# Altium integrated library Analog Devices Temperature Sensors.IntLib: 271 symbols (part 9 of 14)
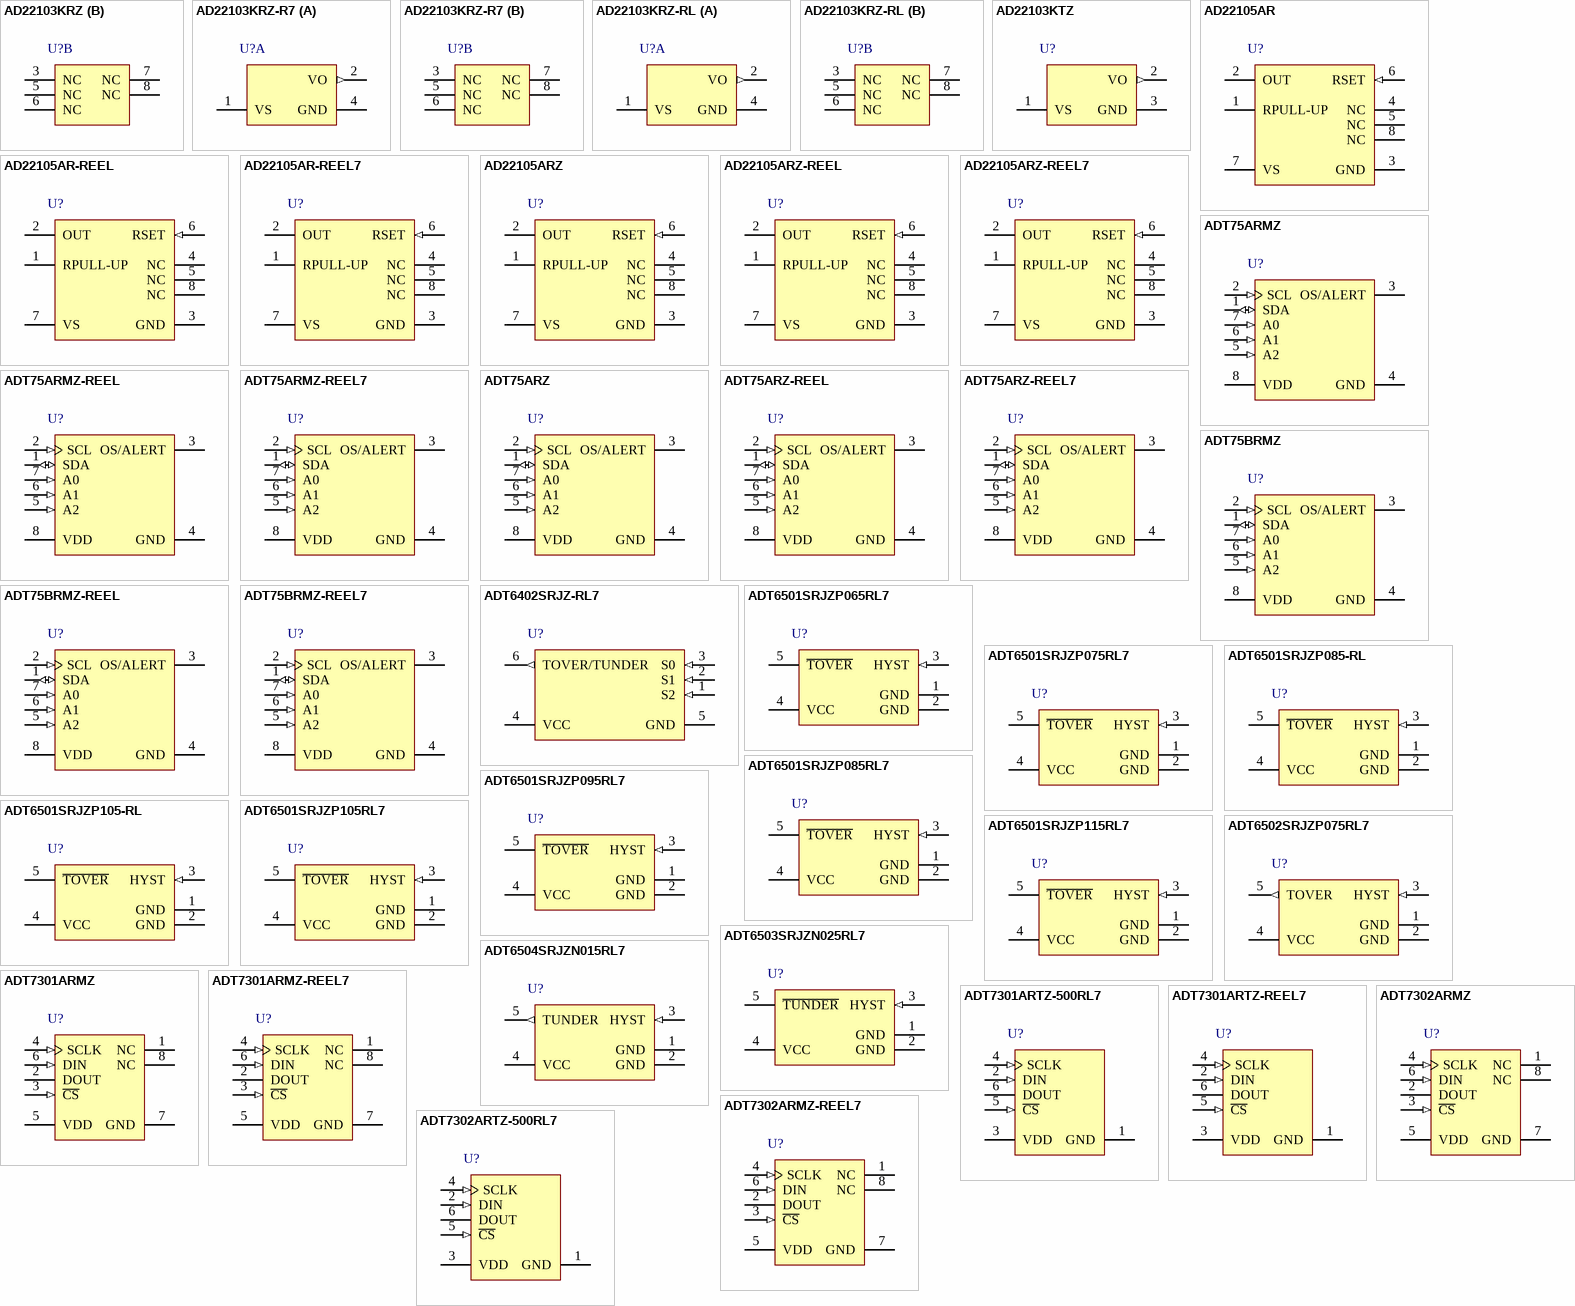
[diagram p15: symbols AD22103KRZ to ADT7302ARTZ-500RL7]

## ADT75ARMZ-REEL7
designator U?
+/-1 degrees C Accurate, 12-Bit Digital Temperature Sensor, 2.7 to 5.5 V Supply, Industrial, 8-pin SOP (RM-8), Reel; Manufacturer: Analog Devices; PartNumber: ADT75ARMZ-REEL7; DatasheetVersion: Rev. B; PackageVersion: 08/2005; PackageReference: RM-8; PackageDescription: 8-Pin Mini Small Outline Package, Body 3 x 3 mm, Pitch 0.65 mm; Supplier 1: Digi-Key; Supplier Part Number 1: ADT75ARMZ-REEL7TR-ND; Supplier 2: Digi-Key; Supplier Part Number 2: ADT75ARMZ-REEL7CT-ND; Supplier 3: Digi-Key; Supplier Part Number 3: ADT75ARMZ-REEL7DKR-ND; Supplier 4: Newark; Supplier Part Number 4: 30M9932; Supplier 5: Mouser; Supplier Part Number 5: 584-ADT75ARMZ-R7; Packing: Reel; Supply Voltage Range: 2.7 to 5.5 V; Mounting Technology: Surface Mount; Code_JEDEC: MO-187-AA; ComponentLink1Description: Manufacturer URL; ComponentLink1URL: http://www.analog.com/en/index.html; ComponentLink2Description: Datasheet; ComponentLink2URL: http://www.analog.com/static/imported-files/data_sheets/ADT75.pdf; ComponentLink3Description: Package Specification; ComponentLink3URL: http://www.analog.com/static/imported-files/packages/PKG_PDF/MSOP%28RM%29/RM_8.pdf; ComponentLink4Description: Product URL; ComponentLink4URL: http://www.analog.com/en/mems-sensors/digital-temperature-sensors/adt75/products/product.html
footprint ADI-RM-8_N (SOP, 8-Leads, Body 3x3mm, Pitch 0.65mm, IPC Medium Density)
footprint ADI-RM-8_L (SOP, 8-Leads, Body 3x3mm, Pitch 0.65mm, IPC High Density)
footprint ADI-RM-8_M (SOP, 8-Leads, Body 3x3mm, Pitch 0.65mm, IPC Low Density)
pins: 1 SDA (io) "SMBus/I2C Serial Data Input/Output. Serial data that is loaded into and read from the ADT75 registers is provided on this pin. Open-drain configuration; needs a pull-up resistor.", 2 SCL (in) "Serial Clock Input. This is the clock input for the serial port. The serial clock is used to clock in and clock out data to and from any register of the ADT75. Open-drain configuration; needs a pull-up resistor.", 3 OS/ALERT (oc) "Over- and Undertemperature Indicator. Default power as an OS pin. Open-drain configuration; needs a pull-up resistor.", 4 GND (power) "Analog and Digital Ground.", 5 A2 (in) "SMBus/I2C Serial Bus Address Selection Pin. Logic input. Can be set to GND or VDD.", 6 A1 (in) "SMBus/I2C Serial Bus Address Selection Pin. Logic input. Can be set to GND or VDD.", 7 A0 (in) "SMBus/I2C Serial Bus Address Selection Pin. Logic input. Can be set to GND or VDD.", 8 VDD (power) "Positive Supply Voltage, 2.7 V to 5.5 V. Decouple the supply to ground."

## ADT75ARZ
designator U?
+/-1 degrees C Accurate, 12-Bit Digital Temperature Sensor, 2.7 to 5.5 V Supply, Industrial, 8-pin SOIC (R-8), Tube; Manufacturer: Analog Devices; PartNumber: ADT75ARZ; DatasheetVersion: Rev. B; PackageVersion: 060506-A, 06/2006; PackageReference: R-8; PackageDescription: 8-Pin Standard Small Outline Package, Body 4.9 x 3.9 mm, Pitch 1.27 mm; Supplier 1: Digi-Key; Supplier Part Number 1: ADT75ARZ-ND; Supplier 2: Farnell; Supplier Part Number 2: 1117116; Supplier 3: Newark; Supplier Part Number 3: 19M0733; Supplier 4: Mouser; Supplier Part Number 4: 584-ADT75ARZ; Packing: Tube; Supply Voltage Range: 2.7 to 5.5 V; Mounting Technology: Surface Mount; Code_JEDEC: MS-012-AA; ComponentLink1Description: Manufacturer URL; ComponentLink1URL: http://www.analog.com/en/index.html; ComponentLink2Description: Datasheet; ComponentLink2URL: http://www.analog.com/static/imported-files/data_sheets/ADT75.pdf; ComponentLink3Description: Package Specification; ComponentLink3URL: http://www.analog.com/static/imported-files/packages/PKG_PDF/SOIC_Narrow%20(R)/R_8.pdf; ComponentLink4Description: Product URL; ComponentLink4URL: http://www.analog.com/en/mems-sensors/digital-temperature-sensors/adt75/products/product.html
footprint ADI-R-8_N (SOIC, 8-Leads, Body 4.9x3.9mm, Pitch 1.27mm, IPC Medium Density)
footprint ADI-R-8_L (SOIC, 8-Leads, Body 4.9x3.9mm, Pitch 1.27mm, IPC High Density)
footprint ADI-R-8_M (SOIC, 8-Leads, Body 4.9x3.9mm, Pitch 1.27mm, IPC Low Density)
pins: 1 SDA (io) "SMBus/I2C Serial Data Input/Output. Serial data that is loaded into and read from the ADT75 registers is provided on this pin. Open-drain configuration; needs a pull-up resistor.", 2 SCL (in) "Serial Clock Input. This is the clock input for the serial port. The serial clock is used to clock in and clock out data to and from any register of the ADT75. Open-drain configuration; needs a pull-up resistor.", 3 OS/ALERT (oc) "Over- and Undertemperature Indicator. Default power as an OS pin. Open-drain configuration; needs a pull-up resistor.", 4 GND (power) "Analog and Digital Ground.", 5 A2 (in) "SMBus/I2C Serial Bus Address Selection Pin. Logic input. Can be set to GND or VDD.", 6 A1 (in) "SMBus/I2C Serial Bus Address Selection Pin. Logic input. Can be set to GND or VDD.", 7 A0 (in) "SMBus/I2C Serial Bus Address Selection Pin. Logic input. Can be set to GND or VDD.", 8 VDD (power) "Positive Supply Voltage, 2.7 V to 5.5 V. Decouple the supply to ground."

## ADT75ARZ-REEL
designator U?
+/-1 degrees C Accurate, 12-Bit Digital Temperature Sensor, 2.7 to 5.5 V Supply, Industrial, 8-pin SOIC (R-8), Reel; Manufacturer: Analog Devices; PartNumber: ADT75ARZ-REEL; DatasheetVersion: Rev. B; PackageVersion: 060506-A, 06/2006; PackageReference: R-8; PackageDescription: 8-Pin Standard Small Outline Package, Body 4.9 x 3.9 mm, Pitch 1.27 mm; Supplier 1: Digi-Key; Supplier Part Number 1: ADT75ARZ-REELTR-ND; Supplier 2: Digi-Key; Supplier Part Number 2: ADT75ARZ-REELCT-ND; Supplier 3: Digi-Key; Supplier Part Number 3: ADT75ARZ-REELDKR-ND; Supplier 4: Newark; Supplier Part Number 4: 30M9933; Supplier 5: Mouser; Supplier Part Number 5: 584-ADT75ARZ-R; Packing: Reel; Supply Voltage Range: 2.7 to 5.5 V; Mounting Technology: Surface Mount; Code_JEDEC: MS-012-AA; ComponentLink1Description: Manufacturer URL; ComponentLink1URL: http://www.analog.com/en/index.html; ComponentLink2Description: Datasheet; ComponentLink2URL: http://www.analog.com/static/imported-files/data_sheets/ADT75.pdf; ComponentLink3Description: Package Specification; ComponentLink3URL: http://www.analog.com/static/imported-files/packages/PKG_PDF/SOIC_Narrow%20(R)/R_8.pdf; ComponentLink4Description: Product URL; ComponentLink4URL: http://www.analog.com/en/mems-sensors/digital-temperature-sensors/adt75/products/product.html
footprint ADI-R-8_N (SOIC, 8-Leads, Body 4.9x3.9mm, Pitch 1.27mm, IPC Medium Density)
footprint ADI-R-8_L (SOIC, 8-Leads, Body 4.9x3.9mm, Pitch 1.27mm, IPC High Density)
footprint ADI-R-8_M (SOIC, 8-Leads, Body 4.9x3.9mm, Pitch 1.27mm, IPC Low Density)
pins: 1 SDA (io) "SMBus/I2C Serial Data Input/Output. Serial data that is loaded into and read from the ADT75 registers is provided on this pin. Open-drain configuration; needs a pull-up resistor.", 2 SCL (in) "Serial Clock Input. This is the clock input for the serial port. The serial clock is used to clock in and clock out data to and from any register of the ADT75. Open-drain configuration; needs a pull-up resistor.", 3 OS/ALERT (oc) "Over- and Undertemperature Indicator. Default power as an OS pin. Open-drain configuration; needs a pull-up resistor.", 4 GND (power) "Analog and Digital Ground.", 5 A2 (in) "SMBus/I2C Serial Bus Address Selection Pin. Logic input. Can be set to GND or VDD.", 6 A1 (in) "SMBus/I2C Serial Bus Address Selection Pin. Logic input. Can be set to GND or VDD.", 7 A0 (in) "SMBus/I2C Serial Bus Address Selection Pin. Logic input. Can be set to GND or VDD.", 8 VDD (power) "Positive Supply Voltage, 2.7 V to 5.5 V. Decouple the supply to ground."

## ADT75ARZ-REEL7
designator U?
+/-1 degrees C Accurate, 12-Bit Digital Temperature Sensor, 2.7 to 5.5 V Supply, Industrial, 8-pin SOIC (R-8), Reel; Manufacturer: Analog Devices; PartNumber: ADT75ARZ-REEL7; DatasheetVersion: Rev. B; PackageVersion: 060506-A, 06/2006; PackageReference: R-8; PackageDescription: 8-Pin Standard Small Outline Package, Body 4.9 x 3.9 mm, Pitch 1.27 mm; Supplier 1: Digi-Key; Supplier Part Number 1: ADT75ARZ-REEL7-ND; Supplier 2: Newark; Supplier Part Number 2: 30M9934; Supplier 3: Mouser; Supplier Part Number 3: 584-ADT75ARZ-R7; Packing: Reel; Supply Voltage Range: 2.7 to 5.5 V; Mounting Technology: Surface Mount; Code_JEDEC: MS-012-AA; ComponentLink1Description: Manufacturer URL; ComponentLink1URL: http://www.analog.com/en/index.html; ComponentLink2Description: Datasheet; ComponentLink2URL: http://www.analog.com/static/imported-files/data_sheets/ADT75.pdf; ComponentLink3Description: Package Specification; ComponentLink3URL: http://www.analog.com/static/imported-files/packages/PKG_PDF/SOIC_Narrow%20(R)/R_8.pdf; ComponentLink4Description: Product URL; ComponentLink4URL: http://www.analog.com/en/mems-sensors/digital-temperature-sensors/adt75/products/product.html
footprint ADI-R-8_N (SOIC, 8-Leads, Body 4.9x3.9mm, Pitch 1.27mm, IPC Medium Density)
footprint ADI-R-8_L (SOIC, 8-Leads, Body 4.9x3.9mm, Pitch 1.27mm, IPC High Density)
footprint ADI-R-8_M (SOIC, 8-Leads, Body 4.9x3.9mm, Pitch 1.27mm, IPC Low Density)
pins: 1 SDA (io) "SMBus/I2C Serial Data Input/Output. Serial data that is loaded into and read from the ADT75 registers is provided on this pin. Open-drain configuration; needs a pull-up resistor.", 2 SCL (in) "Serial Clock Input. This is the clock input for the serial port. The serial clock is used to clock in and clock out data to and from any register of the ADT75. Open-drain configuration; needs a pull-up resistor.", 3 OS/ALERT (oc) "Over- and Undertemperature Indicator. Default power as an OS pin. Open-drain configuration; needs a pull-up resistor.", 4 GND (power) "Analog and Digital Ground.", 5 A2 (in) "SMBus/I2C Serial Bus Address Selection Pin. Logic input. Can be set to GND or VDD.", 6 A1 (in) "SMBus/I2C Serial Bus Address Selection Pin. Logic input. Can be set to GND or VDD.", 7 A0 (in) "SMBus/I2C Serial Bus Address Selection Pin. Logic input. Can be set to GND or VDD.", 8 VDD (power) "Positive Supply Voltage, 2.7 V to 5.5 V. Decouple the supply to ground."

## ADT75BRMZ
designator U?
+/-1 degrees C Accurate, 12-Bit Digital Temperature Sensor, 2.7 to 5.5 V Supply, Industrial, 8-pin SOP (RM-8), Tube; Manufacturer: Analog Devices; PartNumber: ADT75BRMZ; DatasheetVersion: Rev. B; PackageVersion: 08/2005; PackageReference: RM-8; PackageDescription: 8-Pin Mini Small Outline Package, Body 3 x 3 mm, Pitch 0.65 mm; Supplier 1: Digi-Key; Supplier Part Number 1: ADT75BRMZ-ND; Supplier 2: Farnell; Supplier Part Number 2: 2377124; Supplier 3: Newark; Supplier Part Number 3: 23X6069; Supplier 4: Newark; Supplier Part Number 4: 30M9935; Supplier 5: Mouser; Supplier Part Number 5: 584-ADT75BRMZ; Packing: Tube; Supply Voltage Range: 2.7 to 5.5 V; Mounting Technology: Surface Mount; Code_JEDEC: MO-187-AA; ComponentLink1Description: Manufacturer URL; ComponentLink1URL: http://www.analog.com/en/index.html; ComponentLink2Description: Datasheet; ComponentLink2URL: http://www.analog.com/static/imported-files/data_sheets/ADT75.pdf; ComponentLink3Description: Package Specification; ComponentLink3URL: http://www.analog.com/static/imported-files/packages/PKG_PDF/MSOP%28RM%29/RM_8.pdf; ComponentLink4Description: Product URL; ComponentLink4URL: http://www.analog.com/en/mems-sensors/digital-temperature-sensors/adt75/products/product.html
footprint ADI-RM-8_N (SOP, 8-Leads, Body 3x3mm, Pitch 0.65mm, IPC Medium Density)
footprint ADI-RM-8_L (SOP, 8-Leads, Body 3x3mm, Pitch 0.65mm, IPC High Density)
footprint ADI-RM-8_M (SOP, 8-Leads, Body 3x3mm, Pitch 0.65mm, IPC Low Density)
pins: 1 SDA (io) "SMBus/I2C Serial Data Input/Output. Serial data that is loaded into and read from the ADT75 registers is provided on this pin. Open-drain configuration; needs a pull-up resistor.", 2 SCL (in) "Serial Clock Input. This is the clock input for the serial port. The serial clock is used to clock in and clock out data to and from any register of the ADT75. Open-drain configuration; needs a pull-up resistor.", 3 OS/ALERT (oc) "Over- and Undertemperature Indicator. Default power as an OS pin. Open-drain configuration; needs a pull-up resistor.", 4 GND (power) "Analog and Digital Ground.", 5 A2 (in) "SMBus/I2C Serial Bus Address Selection Pin. Logic input. Can be set to GND or VDD.", 6 A1 (in) "SMBus/I2C Serial Bus Address Selection Pin. Logic input. Can be set to GND or VDD.", 7 A0 (in) "SMBus/I2C Serial Bus Address Selection Pin. Logic input. Can be set to GND or VDD.", 8 VDD (power) "Positive Supply Voltage, 2.7 V to 5.5 V. Decouple the supply to ground."

## ADT75BRMZ-REEL
designator U?
+/-1 degrees C Accurate, 12-Bit Digital Temperature Sensor, 2.7 to 5.5 V Supply, Industrial, 8-pin SOP (RM-8), Reel; Manufacturer: Analog Devices; PartNumber: ADT75BRMZ-REEL; DatasheetVersion: Rev. B; PackageVersion: 08/2005; PackageReference: RM-8; PackageDescription: 8-Pin Mini Small Outline Package, Body 3 x 3 mm, Pitch 0.65 mm; Supplier 1: Digi-Key; Supplier Part Number 1: ADT75BRMZ-REEL-ND; Supplier 2: Mouser; Supplier Part Number 2: 584-ADT75BRMZ-R; Packing: Reel; Supply Voltage Range: 2.7 to 5.5 V; Mounting Technology: Surface Mount; Code_JEDEC: MO-187-AA; ComponentLink1Description: Manufacturer URL; ComponentLink1URL: http://www.analog.com/en/index.html; ComponentLink2Description: Datasheet; ComponentLink2URL: http://www.analog.com/static/imported-files/data_sheets/ADT75.pdf; ComponentLink3Description: Package Specification; ComponentLink3URL: http://www.analog.com/static/imported-files/packages/PKG_PDF/MSOP%28RM%29/RM_8.pdf; ComponentLink4Description: Product URL; ComponentLink4URL: http://www.analog.com/en/mems-sensors/digital-temperature-sensors/adt75/products/product.html
footprint ADI-RM-8_N (SOP, 8-Leads, Body 3x3mm, Pitch 0.65mm, IPC Medium Density)
footprint ADI-RM-8_L (SOP, 8-Leads, Body 3x3mm, Pitch 0.65mm, IPC High Density)
footprint ADI-RM-8_M (SOP, 8-Leads, Body 3x3mm, Pitch 0.65mm, IPC Low Density)
pins: 1 SDA (io) "SMBus/I2C Serial Data Input/Output. Serial data that is loaded into and read from the ADT75 registers is provided on this pin. Open-drain configuration; needs a pull-up resistor.", 2 SCL (in) "Serial Clock Input. This is the clock input for the serial port. The serial clock is used to clock in and clock out data to and from any register of the ADT75. Open-drain configuration; needs a pull-up resistor.", 3 OS/ALERT (oc) "Over- and Undertemperature Indicator. Default power as an OS pin. Open-drain configuration; needs a pull-up resistor.", 4 GND (power) "Analog and Digital Ground.", 5 A2 (in) "SMBus/I2C Serial Bus Address Selection Pin. Logic input. Can be set to GND or VDD.", 6 A1 (in) "SMBus/I2C Serial Bus Address Selection Pin. Logic input. Can be set to GND or VDD.", 7 A0 (in) "SMBus/I2C Serial Bus Address Selection Pin. Logic input. Can be set to GND or VDD.", 8 VDD (power) "Positive Supply Voltage, 2.7 V to 5.5 V. Decouple the supply to ground."

## ADT75BRMZ-REEL7
designator U?
+/-1 degrees C Accurate, 12-Bit Digital Temperature Sensor, 2.7 to 5.5 V Supply, Industrial, 8-pin SOP (RM-8), Reel; Manufacturer: Analog Devices; PartNumber: ADT75BRMZ-REEL7; DatasheetVersion: Rev. B; PackageVersion: 08/2005; PackageReference: RM-8; PackageDescription: 8-Pin Mini Small Outline Package, Body 3 x 3 mm, Pitch 0.65 mm; Supplier 1: Digi-Key; Supplier Part Number 1: ADT75BRMZ-REEL7-ND; Supplier 2: Mouser; Supplier Part Number 2: 584-ADT75BRMZ-R7; Packing: Reel; Supply Voltage Range: 2.7 to 5.5 V; Mounting Technology: Surface Mount; Code_JEDEC: MO-187-AA; ComponentLink1Description: Manufacturer URL; ComponentLink1URL: http://www.analog.com/en/index.html; ComponentLink2Description: Datasheet; ComponentLink2URL: http://www.analog.com/static/imported-files/data_sheets/ADT75.pdf; ComponentLink3Description: Package Specification; ComponentLink3URL: http://www.analog.com/static/imported-files/packages/PKG_PDF/MSOP%28RM%29/RM_8.pdf; ComponentLink4Description: Product URL; ComponentLink4URL: http://www.analog.com/en/mems-sensors/digital-temperature-sensors/adt75/products/product.html
footprint ADI-RM-8_N (SOP, 8-Leads, Body 3x3mm, Pitch 0.65mm, IPC Medium Density)
footprint ADI-RM-8_L (SOP, 8-Leads, Body 3x3mm, Pitch 0.65mm, IPC High Density)
footprint ADI-RM-8_M (SOP, 8-Leads, Body 3x3mm, Pitch 0.65mm, IPC Low Density)
pins: 1 SDA (io) "SMBus/I2C Serial Data Input/Output. Serial data that is loaded into and read from the ADT75 registers is provided on this pin. Open-drain configuration; needs a pull-up resistor.", 2 SCL (in) "Serial Clock Input. This is the clock input for the serial port. The serial clock is used to clock in and clock out data to and from any register of the ADT75. Open-drain configuration; needs a pull-up resistor.", 3 OS/ALERT (oc) "Over- and Undertemperature Indicator. Default power as an OS pin. Open-drain configuration; needs a pull-up resistor.", 4 GND (power) "Analog and Digital Ground.", 5 A2 (in) "SMBus/I2C Serial Bus Address Selection Pin. Logic input. Can be set to GND or VDD.", 6 A1 (in) "SMBus/I2C Serial Bus Address Selection Pin. Logic input. Can be set to GND or VDD.", 7 A0 (in) "SMBus/I2C Serial Bus Address Selection Pin. Logic input. Can be set to GND or VDD.", 8 VDD (power) "Positive Supply Voltage, 2.7 V to 5.5 V. Decouple the supply to ground."

## ADT6402SRJZ-RL7
designator U?
Low Cost, Pin-Selectable Temperature Switch, 2.7 to 5.5 V Supply, Military, 6-pin SOT23 (RJ-6), Reel; Manufacturer: Analog Devices; PartNumber: ADT6402SRJZ-RL7; Supply Current: 30 uA; Temp Range(s): -55 to +125 degC; DatasheetVersion: Rev. B; PackageVersion: 121608-A, 12/2008; PackageReference: RJ-6; PackageDescription: 6-Pin Small Outline Transistor Package, Body 2.9 x 1.6 mm, Pitch 0.95 mm; Supplier 1: Digi-Key; Supplier Part Number 1: ADT6402SRJZ-RL7TR-ND; Supplier 2: Digi-Key; Supplier Part Number 2: ADT6402SRJZ-RL7CT-ND; Supplier 3: Digi-Key; Supplier Part Number 3: ADT6402SRJZ-RL7DKR-ND; Supplier 4: Newark; Supplier Part Number 4: 29X6637; Supplier 5: Newark; Supplier Part Number 5: 14N5799; Supplier 6: Mouser; Supplier Part Number 6: 584-ADT6402SRJZ-R7; Packing: Reel; Supply Voltage Range: 2.7 to 5.5 V; Mounting Technology: Surface Mount; Code_JEDEC: MO-178-AB; ComponentLink1Description: Manufacturer URL; ComponentLink1URL: http://www.analog.com/en/index.html; ComponentLink2Description: Datasheet; ComponentLink2URL: http://www.analog.com/static/imported-files/data_sheets/ADT6401_6402.pdf; ComponentLink3Description: Package Specification; ComponentLink3URL: http://www.analog.com/static/imported-files/packages/PKG_PDF/SOT-23(RJ)/RJ_6.pdf; ComponentLink4Description: Product URL; ComponentLink4URL: http://www.analog.com/en/mems-sensors/digital-temperature-sensors/adt6402/products/product.html
footprint ADI-RJ-6_N (SOT23, 6-Leads, Body 2.9x1.6mm, Pitch 0.95mm, IPC Medium Density)
footprint ADI-RJ-6_L (SOT23, 6-Leads, Body 2.9x1.6mm, Pitch 0.95mm, IPC High Density)
footprint ADI-RJ-6_M (SOT23, 6-Leads, Body 2.9x1.6mm, Pitch 0.95mm, IPC Low Density)
pins: 1 S2 (in) "Select Pin for Trip Point and Hysteresis Values.", 2 S1 (in) "Select Pin for Trip Point and Hysteresis Values.", 3 S0 (in) "Select Pin for Trip Point and Hysteresis Values.", 4 VCC (power) "Supply Input (2.7 V to 5.5 V).", 5 GND (power) "Ground.", 6 TOVER/TUNDER (out) "Push-Pull, Active High Output. This pin goes high when the temperature of the part exceeds the pin-selectable threshold."

## ADT6501SRJZP065RL7
designator U?
Low Cost, Micropower Temperature Switch, 2.7 to 5.5 V Supply, Industrial, 5-pin SOT23 (RJ-5), Reel; Manufacturer: Analog Devices; PartNumber: ADT6501SRJZP065RL7; Supply Current: 30 uA; Temp Range(s): -55 to +125 degC; DatasheetVersion: Rev. B; PackageVersion: 121608-A , 12/2008; PackageReference: RJ-5; PackageDescription: 5-Pin Small Outline Transistor Package, Body 2.9 x 1.6 mm, Pitch 0.95 mm; Supplier 1: Digi-Key; Supplier Part Number 1: ADT6501SRJZP065RL7TR-ND; Supplier 2: Digi-Key; Supplier Part Number 2: ADT6501SRJZP065RL7CT-ND; Supplier 3: Digi-Key; Supplier Part Number 3: ADT6501SRJZP065RL7DKR-ND; Supplier 4: Mouser; Supplier Part Number 4: 584-AT6501SRJZP065R7; Packing: Reel; Supply Voltage Range: 2.7 to 5.5 V; Mounting Technology: Surface Mount; Code_JEDEC: MO-178-AA; ComponentLink1Description: Manufacturer URL; ComponentLink1URL: http://www.analog.com/en/index.html; ComponentLink2Description: Datasheet; ComponentLink2URL: http://www.analog.com/static/imported-files/data_sheets/ADT6501_6502_6503_6504.pdf; ComponentLink3Description: Package Specification; ComponentLink3URL: http://www.analog.com/static/imported-files/packages/PKG_PDF/SOT-23(RJ)/RJ_5.pdf; ComponentLink4Description: Product URL; ComponentLink4URL: http://www.analog.com/en/mems-sensors/digital-temperature-sensors/adt6501/products/product.html
footprint ADI-RJ-5_N (SOT-23, 5-Leads, Body 2.9x1.6mm, Pitch 0.95mm, IPC Medium Density)
footprint ADI-RJ-5_L (SOT-23, 5-Leads, Body 2.9x1.6mm, Pitch 0.95mm, IPC High Density)
footprint ADI-RJ-5_M (SOT-23, 5-Leads, Body 2.9x1.6mm, Pitch 0.95mm, IPC Low Density)
pins: 1 GND (power) "Ground.", 2 GND (power) "Ground.", 3 HYST (in) "Hysteresis Input. Connects HYST to GND for 2degreesC hysteresis or connects to VCC for 10degreesC hysteresis.", 4 VCC (power) "Supply Input (2.7 V to 5.5 V).", 5 ~{TOVER} (oc) "Open-Drain, Active Low Output. T\O\V\E\R\ goes low when the temperature of the part exceeds the factory-programmed threshold; must use a pull-up resistor."

## ADT6501SRJZP075RL7
designator U?
Low Cost, Micropower Temperature Switch, 2.7 to 5.5 V Supply, Industrial, 5-pin SOT23 (RJ-5), Reel; Manufacturer: Analog Devices; PartNumber: ADT6501SRJZP075RL7; Supply Current: 30 uA; Temp Range(s): -55 to +125 degC; DatasheetVersion: Rev. B; PackageVersion: 121608-A , 12/2008; PackageReference: RJ-5; PackageDescription: 5-Pin Small Outline Transistor Package, Body 2.9 x 1.6 mm, Pitch 0.95 mm; Supplier 1: Digi-Key; Supplier Part Number 1: ADT6501SRJZP075RL7TR-ND; Supplier 2: Digi-Key; Supplier Part Number 2: ADT6501SRJZP075RL7CT-ND; Supplier 3: Digi-Key; Supplier Part Number 3: ADT6501SRJZP075RL7DKR-ND; Supplier 4: Mouser; Supplier Part Number 4: 584-AT6501SRJZP075R7; Packing: Reel; Supply Voltage Range: 2.7 to 5.5 V; Mounting Technology: Surface Mount; Code_JEDEC: MO-178-AA; ComponentLink1Description: Manufacturer URL; ComponentLink1URL: http://www.analog.com/en/index.html; ComponentLink2Description: Datasheet; ComponentLink2URL: http://www.analog.com/static/imported-files/data_sheets/ADT6501_6502_6503_6504.pdf; ComponentLink3Description: Package Specification; ComponentLink3URL: http://www.analog.com/static/imported-files/packages/PKG_PDF/SOT-23(RJ)/RJ_5.pdf; ComponentLink4Description: Product URL; ComponentLink4URL: http://www.analog.com/en/mems-sensors/digital-temperature-sensors/adt6501/products/product.html
footprint ADI-RJ-5_N (SOT-23, 5-Leads, Body 2.9x1.6mm, Pitch 0.95mm, IPC Medium Density)
footprint ADI-RJ-5_L (SOT-23, 5-Leads, Body 2.9x1.6mm, Pitch 0.95mm, IPC High Density)
footprint ADI-RJ-5_M (SOT-23, 5-Leads, Body 2.9x1.6mm, Pitch 0.95mm, IPC Low Density)
pins: 1 GND (power) "Ground.", 2 GND (power) "Ground.", 3 HYST (in) "Hysteresis Input. Connects HYST to GND for 2degreesC hysteresis or connects to VCC for 10degreesC hysteresis.", 4 VCC (power) "Supply Input (2.7 V to 5.5 V).", 5 ~{TOVER} (oc) "Open-Drain, Active Low Output. T\O\V\E\R\ goes low when the temperature of the part exceeds the factory-programmed threshold; must use a pull-up resistor."

## ADT6501SRJZP085-RL
designator U?
Low Cost, Micropower Temperature Switch, 2.7 to 5.5 V Supply, Industrial, 5-pin SOT23 (RJ-5), Reel; Manufacturer: Analog Devices; PartNumber: ADT6501SRJZP085-RL; Supply Current: 30 uA; Temp Range(s): -55 to +125 degC; DatasheetVersion: Rev. B; PackageVersion: 121608-A , 12/2008; PackageReference: RJ-5; PackageDescription: 5-Pin Small Outline Transistor Package, Body 2.9 x 1.6 mm, Pitch 0.95 mm; Supplier 1: Digi-Key; Supplier Part Number 1: ADT6501SRJZP085-RLTR-ND; Supplier 2: Digi-Key; Supplier Part Number 2: ADT6501SRJZP085-RLCT-ND; Supplier 3: Digi-Key; Supplier Part Number 3: ADT6501SRJZP085-RLDKR-ND; Supplier 4: Mouser; Supplier Part Number 4: 584-ADT6501SRJZP085R; Packing: Reel; Supply Voltage Range: 2.7 to 5.5 V; Mounting Technology: Surface Mount; Code_JEDEC: MO-178-AA; ComponentLink1Description: Manufacturer URL; ComponentLink1URL: http://www.analog.com/en/index.html; ComponentLink2Description: Datasheet; ComponentLink2URL: http://www.analog.com/static/imported-files/data_sheets/ADT6501_6502_6503_6504.pdf; ComponentLink3Description: Package Specification; ComponentLink3URL: http://www.analog.com/static/imported-files/packages/PKG_PDF/SOT-23(RJ)/RJ_5.pdf; ComponentLink4Description: Product URL; ComponentLink4URL: http://www.analog.com/en/mems-sensors/digital-temperature-sensors/adt6501/products/product.html
footprint ADI-RJ-5_N (SOT-23, 5-Leads, Body 2.9x1.6mm, Pitch 0.95mm, IPC Medium Density)
footprint ADI-RJ-5_L (SOT-23, 5-Leads, Body 2.9x1.6mm, Pitch 0.95mm, IPC High Density)
footprint ADI-RJ-5_M (SOT-23, 5-Leads, Body 2.9x1.6mm, Pitch 0.95mm, IPC Low Density)
pins: 1 GND (power) "Ground.", 2 GND (power) "Ground.", 3 HYST (in) "Hysteresis Input. Connects HYST to GND for 2degreesC hysteresis or connects to VCC for 10degreesC hysteresis.", 4 VCC (power) "Supply Input (2.7 V to 5.5 V).", 5 ~{TOVER} (oc) "Open-Drain, Active Low Output. T\O\V\E\R\ goes low when the temperature of the part exceeds the factory-programmed threshold; must use a pull-up resistor."

## ADT6501SRJZP085RL7
designator U?
Low Cost, Micropower Temperature Switch, 2.7 to 5.5 V Supply, Industrial, 5-pin SOT23 (RJ-5), Reel; Manufacturer: Analog Devices; PartNumber: ADT6501SRJZP085RL7; Supply Current: 30 uA; Temp Range(s): -55 to +125 degC; DatasheetVersion: Rev. B; PackageVersion: 121608-A , 12/2008; PackageReference: RJ-5; PackageDescription: 5-Pin Small Outline Transistor Package, Body 2.9 x 1.6 mm, Pitch 0.95 mm; Supplier 1: Digi-Key; Supplier Part Number 1: ADT6501SRJZP085RL7TR-ND; Supplier 2: Digi-Key; Supplier Part Number 2: ADT6501SRJZP085RL7CT-ND; Supplier 3: Digi-Key; Supplier Part Number 3: ADT6501SRJZP085RL7DKR-ND; Supplier 4: Mouser; Supplier Part Number 4: 584-AT6501SRJZP085R7; Packing: Reel; Supply Voltage Range: 2.7 to 5.5 V; Mounting Technology: Surface Mount; Code_JEDEC: MO-178-AA; ComponentLink1Description: Manufacturer URL; ComponentLink1URL: http://www.analog.com/en/index.html; ComponentLink2Description: Datasheet; ComponentLink2URL: http://www.analog.com/static/imported-files/data_sheets/ADT6501_6502_6503_6504.pdf; ComponentLink3Description: Package Specification; ComponentLink3URL: http://www.analog.com/static/imported-files/packages/PKG_PDF/SOT-23(RJ)/RJ_5.pdf; ComponentLink4Description: Product URL; ComponentLink4URL: http://www.analog.com/en/mems-sensors/digital-temperature-sensors/adt6501/products/product.html
footprint ADI-RJ-5_N (SOT-23, 5-Leads, Body 2.9x1.6mm, Pitch 0.95mm, IPC Medium Density)
footprint ADI-RJ-5_L (SOT-23, 5-Leads, Body 2.9x1.6mm, Pitch 0.95mm, IPC High Density)
footprint ADI-RJ-5_M (SOT-23, 5-Leads, Body 2.9x1.6mm, Pitch 0.95mm, IPC Low Density)
pins: 1 GND (power) "Ground.", 2 GND (power) "Ground.", 3 HYST (in) "Hysteresis Input. Connects HYST to GND for 2degreesC hysteresis or connects to VCC for 10degreesC hysteresis.", 4 VCC (power) "Supply Input (2.7 V to 5.5 V).", 5 ~{TOVER} (oc) "Open-Drain, Active Low Output. T\O\V\E\R\ goes low when the temperature of the part exceeds the factory-programmed threshold; must use a pull-up resistor."

## ADT6501SRJZP095RL7
designator U?
Low Cost, Micropower Temperature Switch, 2.7 to 5.5 V Supply, Industrial, 5-pin SOT23 (RJ-5), Reel; Manufacturer: Analog Devices; PartNumber: ADT6501SRJZP095RL7; Supply Current: 30 uA; Temp Range(s): -55 to +125 degC; DatasheetVersion: Rev. B; PackageVersion: 121608-A , 12/2008; PackageReference: RJ-5; PackageDescription: 5-Pin Small Outline Transistor Package, Body 2.9 x 1.6 mm, Pitch 0.95 mm; Supplier 1: Digi-Key; Supplier Part Number 1: ADT6501SRJZP095RL7TR-ND; Supplier 2: Digi-Key; Supplier Part Number 2: ADT6501SRJZP095RL7CT-ND; Supplier 3: Digi-Key; Supplier Part Number 3: ADT6501SRJZP095RL7DKR-ND; Supplier 4: Newark; Supplier Part Number 4: 19P8233; Supplier 5: Mouser; Supplier Part Number 5: 584-AT6501SRJZP095R7; Packing: Reel; Supply Voltage Range: 2.7 to 5.5 V; Mounting Technology: Surface Mount; Code_JEDEC: MO-178-AA; ComponentLink1Description: Manufacturer URL; ComponentLink1URL: http://www.analog.com/en/index.html; ComponentLink2Description: Datasheet; ComponentLink2URL: http://www.analog.com/static/imported-files/data_sheets/ADT6501_6502_6503_6504.pdf; ComponentLink3Description: Package Specification; ComponentLink3URL: http://www.analog.com/static/imported-files/packages/PKG_PDF/SOT-23(RJ)/RJ_5.pdf; ComponentLink4Description: Product URL; ComponentLink4URL: http://www.analog.com/en/mems-sensors/digital-temperature-sensors/adt6501/products/product.html
footprint ADI-RJ-5_N (SOT-23, 5-Leads, Body 2.9x1.6mm, Pitch 0.95mm, IPC Medium Density)
footprint ADI-RJ-5_L (SOT-23, 5-Leads, Body 2.9x1.6mm, Pitch 0.95mm, IPC High Density)
footprint ADI-RJ-5_M (SOT-23, 5-Leads, Body 2.9x1.6mm, Pitch 0.95mm, IPC Low Density)
pins: 1 GND (power) "Ground.", 2 GND (power) "Ground.", 3 HYST (in) "Hysteresis Input. Connects HYST to GND for 2degreesC hysteresis or connects to VCC for 10degreesC hysteresis.", 4 VCC (power) "Supply Input (2.7 V to 5.5 V).", 5 ~{TOVER} (oc) "Open-Drain, Active Low Output. T\O\V\E\R\ goes low when the temperature of the part exceeds the factory-programmed threshold; must use a pull-up resistor."

## ADT6501SRJZP105-RL
designator U?
Low Cost, Micropower Temperature Switch, 2.7 to 5.5 V Supply, Industrial, 5-pin SOT23 (RJ-5), Reel; Manufacturer: Analog Devices; PartNumber: ADT6501SRJZP105-RL; Supply Current: 30 uA; Temp Range(s): -55 to +125 degC; DatasheetVersion: Rev. B; PackageVersion: 121608-A , 12/2008; PackageReference: RJ-5; PackageDescription: 5-Pin Small Outline Transistor Package, Body 2.9 x 1.6 mm, Pitch 0.95 mm; Supplier 1: Digi-Key; Supplier Part Number 1: ADT6501SRJZP105-RLTR-ND; Supplier 2: Digi-Key; Supplier Part Number 2: ADT6501SRJZP105-RLCT-ND; Supplier 3: Digi-Key; Supplier Part Number 3: ADT6501SRJZP105-RLDKR-ND; Supplier 4: Mouser; Supplier Part Number 4: 584-ADT6501SRJZP105R; Packing: Reel; Supply Voltage Range: 2.7 to 5.5 V; Mounting Technology: Surface Mount; Code_JEDEC: MO-178-AA; ComponentLink1Description: Manufacturer URL; ComponentLink1URL: http://www.analog.com/en/index.html; ComponentLink2Description: Datasheet; ComponentLink2URL: http://www.analog.com/static/imported-files/data_sheets/ADT6501_6502_6503_6504.pdf; ComponentLink3Description: Package Specification; ComponentLink3URL: http://www.analog.com/static/imported-files/packages/PKG_PDF/SOT-23(RJ)/RJ_5.pdf; ComponentLink4Description: Product URL; ComponentLink4URL: http://www.analog.com/en/mems-sensors/digital-temperature-sensors/adt6501/products/product.html
footprint ADI-RJ-5_N (SOT-23, 5-Leads, Body 2.9x1.6mm, Pitch 0.95mm, IPC Medium Density)
footprint ADI-RJ-5_L (SOT-23, 5-Leads, Body 2.9x1.6mm, Pitch 0.95mm, IPC High Density)
footprint ADI-RJ-5_M (SOT-23, 5-Leads, Body 2.9x1.6mm, Pitch 0.95mm, IPC Low Density)
pins: 1 GND (power) "Ground.", 2 GND (power) "Ground.", 3 HYST (in) "Hysteresis Input. Connects HYST to GND for 2degreesC hysteresis or connects to VCC for 10degreesC hysteresis.", 4 VCC (power) "Supply Input (2.7 V to 5.5 V).", 5 ~{TOVER} (oc) "Open-Drain, Active Low Output. T\O\V\E\R\ goes low when the temperature of the part exceeds the factory-programmed threshold; must use a pull-up resistor."

## ADT6501SRJZP105RL7
designator U?
Low Cost, Micropower Temperature Switch, 2.7 to 5.5 V Supply, Industrial, 5-pin SOT23 (RJ-5), Reel; Manufacturer: Analog Devices; PartNumber: ADT6501SRJZP105RL7; Supply Current: 30 uA; Temp Range(s): -55 to +125 degC; DatasheetVersion: Rev. B; PackageVersion: 121608-A , 12/2008; PackageReference: RJ-5; PackageDescription: 5-Pin Small Outline Transistor Package, Body 2.9 x 1.6 mm, Pitch 0.95 mm; Supplier 1: Digi-Key; Supplier Part Number 1: ADT6501SRJZP105RL7TR-ND; Supplier 2: Digi-Key; Supplier Part Number 2: ADT6501SRJZP105RL7CT-ND; Supplier 3: Digi-Key; Supplier Part Number 3: ADT6501SRJZP105RL7DKR-ND; Supplier 4: Mouser; Supplier Part Number 4: 584-AT6501SRJZP105R7; Packing: Reel; Supply Voltage Range: 2.7 to 5.5 V; Mounting Technology: Surface Mount; Code_JEDEC: MO-178-AA; ComponentLink1Description: Manufacturer URL; ComponentLink1URL: http://www.analog.com/en/index.html; ComponentLink2Description: Datasheet; ComponentLink2URL: http://www.analog.com/static/imported-files/data_sheets/ADT6501_6502_6503_6504.pdf; ComponentLink3Description: Package Specification; ComponentLink3URL: http://www.analog.com/static/imported-files/packages/PKG_PDF/SOT-23(RJ)/RJ_5.pdf; ComponentLink4Description: Product URL; ComponentLink4URL: http://www.analog.com/en/mems-sensors/digital-temperature-sensors/adt6501/products/product.html
footprint ADI-RJ-5_N (SOT-23, 5-Leads, Body 2.9x1.6mm, Pitch 0.95mm, IPC Medium Density)
footprint ADI-RJ-5_L (SOT-23, 5-Leads, Body 2.9x1.6mm, Pitch 0.95mm, IPC High Density)
footprint ADI-RJ-5_M (SOT-23, 5-Leads, Body 2.9x1.6mm, Pitch 0.95mm, IPC Low Density)
pins: 1 GND (power) "Ground.", 2 GND (power) "Ground.", 3 HYST (in) "Hysteresis Input. Connects HYST to GND for 2degreesC hysteresis or connects to VCC for 10degreesC hysteresis.", 4 VCC (power) "Supply Input (2.7 V to 5.5 V).", 5 ~{TOVER} (oc) "Open-Drain, Active Low Output. T\O\V\E\R\ goes low when the temperature of the part exceeds the factory-programmed threshold; must use a pull-up resistor."

## ADT6501SRJZP115RL7
designator U?
Low Cost, Micropower Temperature Switch, 2.7 to 5.5 V Supply, Industrial, 5-pin SOT23 (RJ-5), Reel; Manufacturer: Analog Devices; PartNumber: ADT6501SRJZP115RL7; Supply Current: 30 uA; Temp Range(s): -55 to +125 degC; DatasheetVersion: Rev. B; PackageVersion: 121608-A , 12/2008; PackageReference: RJ-5; PackageDescription: 5-Pin Small Outline Transistor Package, Body 2.9 x 1.6 mm, Pitch 0.95 mm; Supplier 1: Digi-Key; Supplier Part Number 1: ADT6501SRJZP115RL7TR-ND; Supplier 2: Digi-Key; Supplier Part Number 2: ADT6501SRJZP115RL7CT-ND; Supplier 3: Digi-Key; Supplier Part Number 3: ADT6501SRJZP115RL7DKR-ND; Supplier 4: Mouser; Supplier Part Number 4: 584-AT6501SRJZP115R7; Packing: Reel; Supply Voltage Range: 2.7 to 5.5 V; Mounting Technology: Surface Mount; Code_JEDEC: MO-178-AA; ComponentLink1Description: Manufacturer URL; ComponentLink1URL: http://www.analog.com/en/index.html; ComponentLink2Description: Datasheet; ComponentLink2URL: http://www.analog.com/static/imported-files/data_sheets/ADT6501_6502_6503_6504.pdf; ComponentLink3Description: Package Specification; ComponentLink3URL: http://www.analog.com/static/imported-files/packages/PKG_PDF/SOT-23(RJ)/RJ_5.pdf; ComponentLink4Description: Product URL; ComponentLink4URL: http://www.analog.com/en/mems-sensors/digital-temperature-sensors/adt6501/products/product.html
footprint ADI-RJ-5_N (SOT-23, 5-Leads, Body 2.9x1.6mm, Pitch 0.95mm, IPC Medium Density)
footprint ADI-RJ-5_L (SOT-23, 5-Leads, Body 2.9x1.6mm, Pitch 0.95mm, IPC High Density)
footprint ADI-RJ-5_M (SOT-23, 5-Leads, Body 2.9x1.6mm, Pitch 0.95mm, IPC Low Density)
pins: 1 GND (power) "Ground.", 2 GND (power) "Ground.", 3 HYST (in) "Hysteresis Input. Connects HYST to GND for 2degreesC hysteresis or connects to VCC for 10degreesC hysteresis.", 4 VCC (power) "Supply Input (2.7 V to 5.5 V).", 5 ~{TOVER} (oc) "Open-Drain, Active Low Output. T\O\V\E\R\ goes low when the temperature of the part exceeds the factory-programmed threshold; must use a pull-up resistor."

## ADT6502SRJZP075RL7
designator U?
Low Cost, Micropower Temperature Switch, 2.7 to 5.5 V Supply, Industrial, 5-pin SOT23 (RJ-5), Reel; Manufacturer: Analog Devices; PartNumber: ADT6502SRJZP075RL7; Supply Current: 30 uA; Temp Range(s): -55 to +125 degC; DatasheetVersion: Rev. B; PackageVersion: 121608-A , 12/2008; PackageReference: RJ-5; PackageDescription: 5-Pin Small Outline Transistor Package, Body 2.9 x 1.6 mm, Pitch 0.95 mm; Supplier 1: Digi-Key; Supplier Part Number 1: ADT6502SRJZP075RL7TR-ND; Supplier 2: Digi-Key; Supplier Part Number 2: ADT6502SRJZP075RL7CT-ND; Supplier 3: Digi-Key; Supplier Part Number 3: ADT6502SRJZP075RL7DKR-ND; Supplier 4: Mouser; Supplier Part Number 4: 584-AT6502SRJZP075R7; Packing: Reel; Supply Voltage Range: 2.7 to 5.5 V; Mounting Technology: Surface Mount; Code_JEDEC: MO-178-AA; ComponentLink1Description: Manufacturer URL; ComponentLink1URL: http://www.analog.com/en/index.html; ComponentLink2Description: Datasheet; ComponentLink2URL: http://www.analog.com/static/imported-files/data_sheets/ADT6501_6502_6503_6504.pdf; ComponentLink3Description: Package Specification; ComponentLink3URL: http://www.analog.com/static/imported-files/packages/PKG_PDF/SOT-23(RJ)/RJ_5.pdf; ComponentLink4Description: Product URL; ComponentLink4URL: http://www.analog.com/en/mems-sensors/digital-temperature-sensors/adt6502/products/product.html
footprint ADI-RJ-5_N (SOT-23, 5-Leads, Body 2.9x1.6mm, Pitch 0.95mm, IPC Medium Density)
footprint ADI-RJ-5_L (SOT-23, 5-Leads, Body 2.9x1.6mm, Pitch 0.95mm, IPC High Density)
footprint ADI-RJ-5_M (SOT-23, 5-Leads, Body 2.9x1.6mm, Pitch 0.95mm, IPC Low Density)
pins: 1 GND (power) "Ground.", 2 GND (power) "Ground.", 3 HYST (in) "Hysteresis Input. Connects HYST to GND for 2degreesC hysteresis or connects to VCC for 10degreesC hysteresis", 4 VCC (power) "Supply Input (2.7 V to 5.5 V).", 5 TOVER (out) "Push-Pull, Active-High Output. TOVER goes high when the temperature of the part exceeds the factory-programmed threshold."

## ADT6503SRJZN025RL7
designator U?
Low Cost, Micropower Temperature Switch, 2.7 to 5.5 V Supply, Industrial, 5-pin SOT23 (RJ-5), Reel; Manufacturer: Analog Devices; PartNumber: ADT6503SRJZN025RL7; Supply Current: 30 uA; Temp Range(s): -55 to +125 degC; DatasheetVersion: Rev. PrB; PackageVersion: 121608-A , 12/2008; PackageReference: RJ-5; PackageDescription: 5-Pin Small Outline Transistor Package, Body 2.9 x 1.6 mm, Pitch 0.95 mm; Supplier 1: Digi-Key; Supplier Part Number 1: ADT6503SRJZN025RL7TR-ND; Supplier 2: Digi-Key; Supplier Part Number 2: ADT6503SRJZN025RL7CT-ND; Supplier 3: Digi-Key; Supplier Part Number 3: ADT6503SRJZN025RL7DKR-ND; Supplier 4: Mouser; Supplier Part Number 4: 584-AT6503SRJZN025R7; Packing: Reel; Supply Voltage Range: 2.7 to 5.5 V; Mounting Technology: Surface Mount; Code_JEDEC: MO-178-AA; ComponentLink1Description: Manufacturer URL; ComponentLink1URL: http://www.analog.com/en/index.html; ComponentLink2Description: Datasheet; ComponentLink2URL: http://www.analog.com/static/imported-files/data_sheets/AD56502_6503_6504.pdf; ComponentLink3Description: Package Specification; ComponentLink3URL: http://www.analog.com/static/imported-files/packages/PKG_PDF/SOT-23(RJ)/RJ_5.pdf; ComponentLink4Description: Product URL; ComponentLink4URL: http://www.analog.com/en/mems-sensors/digital-temperature-sensors/adt6503/products/product.html
footprint ADI-RJ-5_N (SOT-23, 5-Leads, Body 2.9x1.6mm, Pitch 0.95mm, IPC Medium Density)
footprint ADI-RJ-5_L (SOT-23, 5-Leads, Body 2.9x1.6mm, Pitch 0.95mm, IPC High Density)
footprint ADI-RJ-5_M (SOT-23, 5-Leads, Body 2.9x1.6mm, Pitch 0.95mm, IPC Low Density)
pins: 1 GND (power) "Ground.", 2 GND (power) "Ground.", 3 HYST (in) "Hysteresis Input. Connects HYST to GND for 2degreesC hysteresis or connects to VCC for 10degreesC hysteresis", 4 VCC (power) "Supply Input (2.7 V to 5.5 V).", 5 ~{TUNDER} (oc) "Open-Drain, Active-Low Output. T\U\N\D\E\R\ goes low when the temperature of the part exceeds the factory-programmed threshold; must use a pull-up resistor"

## ADT6504SRJZN015RL7
designator U?
Low Cost, Micropower Temperature Switch, 2.7 to 5.5 V Supply, Industrial, 5-pin SOT23 (RJ-5), Reel; Manufacturer: Analog Devices; PartNumber: ADT6504SRJZN015RL7; Supply Current: 30 uA; Temp Range(s): -55 to +125 degC; DatasheetVersion: Rev. PrB; PackageVersion: 121608-A , 12/2008; PackageReference: RJ-5; PackageDescription: 5-Pin Small Outline Transistor Package, Body 2.9 x 1.6 mm, Pitch 0.95 mm; Supplier 1: Digi-Key; Supplier Part Number 1: ADT6504SRJZN015RL7TR-ND; Supplier 2: Digi-Key; Supplier Part Number 2: ADT6504SRJZN015RL7CT-ND; Supplier 3: Digi-Key; Supplier Part Number 3: ADT6504SRJZN015RL7DKR-ND; Supplier 4: Mouser; Supplier Part Number 4: 584-AT6504SRJZN015R7; Packing: Reel; Supply Voltage Range: 2.7 to 5.5 V; Mounting Technology: Surface Mount; Code_JEDEC: MO-178-AA; ComponentLink1Description: Manufacturer URL; ComponentLink1URL: http://www.analog.com/en/index.html; ComponentLink2Description: Datasheet; ComponentLink2URL: http://www.analog.com/static/imported-files/data_sheets/AD56502_6503_6504.pdf; ComponentLink3Description: Package Specification; ComponentLink3URL: http://www.analog.com/static/imported-files/packages/PKG_PDF/SOT-23(RJ)/RJ_5.pdf; ComponentLink4Description: Product URL; ComponentLink4URL: http://www.analog.com/en/mems-sensors/digital-temperature-sensors/adt6504/products/product.html
footprint ADI-RJ-5_N (SOT-23, 5-Leads, Body 2.9x1.6mm, Pitch 0.95mm, IPC Medium Density)
footprint ADI-RJ-5_L (SOT-23, 5-Leads, Body 2.9x1.6mm, Pitch 0.95mm, IPC High Density)
footprint ADI-RJ-5_M (SOT-23, 5-Leads, Body 2.9x1.6mm, Pitch 0.95mm, IPC Low Density)
pins: 1 GND (power) "Ground.", 2 GND (power) "Ground.", 3 HYST (in) "Hysteresis Input. Connects HYST to GND for 2degreesC hysteresis or connects to VCC for 10degreesC hysteresis", 4 VCC (power) "Supply Input (2.7 V to 5.5 V).", 5 TUNDER   (out) "Push-Pull, Active-High Output. TUNDER goes high when the temperature of the part exceeds the factory-programmed threshold."

## ADT7301ARMZ
designator U?
+/-1 degrees C Accurate, 13-Bit, Digital Temperature Sensor, 2.7 to 5.25 V Supply, Industrial, 8-pin SOP (RM-8), Tube; Manufacturer: Analog Devices; PartNumber: ADT7301ARMZ; DatasheetVersion: Rev. B; PackageVersion: 08/2005; PackageReference: RM-8; PackageDescription: 8-Pin Mini Small Outline Package, Body 3 x 3 mm, Pitch 0.65 mm; Supplier 1: Digi-Key; Supplier Part Number 1: ADT7301ARMZ-ND; Supplier 2: Farnell; Supplier Part Number 2: 1117856; Supplier 3: Newark; Supplier Part Number 3: 19M0728; Supplier 4: Mouser; Supplier Part Number 4: 584-ADT7301ARMZ; Packing: Tube; Supply Voltage Range: 2.7 to 5.25 V; Mounting Technology: Surface Mount; Code_JEDEC: MO-187-AA; ComponentLink1Description: Manufacturer URL; ComponentLink1URL: http://www.analog.com/en/index.html; ComponentLink2Description: Datasheet; ComponentLink2URL: http://www.analog.com/static/imported-files/data_sheets/ADT7301.pdf; ComponentLink3Description: Package Specification; ComponentLink3URL: http://www.analog.com/static/imported-files/packages/PKG_PDF/MSOP%28RM%29/RM_8.pdf; ComponentLink4Description: Product URL; ComponentLink4URL: http://www.analog.com/en/mems-sensors/digital-temperature-sensors/adt7301/products/product.html
footprint ADI-RM-8_N (SOP, 8-Leads, Body 3x3mm, Pitch 0.65mm, IPC Medium Density)
footprint ADI-RM-8_L (SOP, 8-Leads, Body 3x3mm, Pitch 0.65mm, IPC High Density)
footprint ADI-RM-8_M (SOP, 8-Leads, Body 3x3mm, Pitch 0.65mm, IPC Low Density)
pins: 1 NC "No Connect.", 2 DOUT (hiz) "Serial Data Output. Logic output. Data is clocked out of the temperature value register at this pin. Data is clocked out on the falling edge of SCLK.", 3 ~{CS} (in) "Chip Select Input. Logic input. The device is selected when this input is low. The SCLK input is disabled when this pin is high.", 4 SCLK (in) "Serial Clock Input. This is the clock input for the serial port.", 5 VDD (power) "Positive Supply Voltage.", 6 DIN (in) "Serial Data Input. Serial data to be loaded to the part’s control register is provided on this input. Data is clocked into the control register on the rising edge of SCLK.", 7 GND (power) "Analog and Digital Ground.", 8 NC "No Connect."

## ADT7301ARMZ-REEL7
designator U?
+/-1 degrees C Accurate, 13-Bit, Digital Temperature Sensor, 2.7 to 5.25 V Supply, Industrial, 8-pin SOP (RM-8), Reel; Manufacturer: Analog Devices; PartNumber: ADT7301ARMZ-REEL7; DatasheetVersion: Rev. B; PackageVersion: 08/2005; PackageReference: RM-8; PackageDescription: 8-Pin Mini Small Outline Package, Body 3 x 3 mm, Pitch 0.65 mm; Supplier 1: Digi-Key; Supplier Part Number 1: ADT7301ARMZ-REEL7-ND; Supplier 2: Mouser; Supplier Part Number 2: 584-ADT7301ARMZ-R7; Packing: Reel; Supply Voltage Range: 2.7 to 5.25 V; Mounting Technology: Surface Mount; Code_JEDEC: MO-187-AA; ComponentLink1Description: Manufacturer URL; ComponentLink1URL: http://www.analog.com/en/index.html; ComponentLink2Description: Datasheet; ComponentLink2URL: http://www.analog.com/static/imported-files/data_sheets/ADT7301.pdf; ComponentLink3Description: Package Specification; ComponentLink3URL: http://www.analog.com/static/imported-files/packages/PKG_PDF/MSOP%28RM%29/RM_8.pdf; ComponentLink4Description: Product URL; ComponentLink4URL: http://www.analog.com/en/mems-sensors/digital-temperature-sensors/adt7301/products/product.html
footprint ADI-RM-8_N (SOP, 8-Leads, Body 3x3mm, Pitch 0.65mm, IPC Medium Density)
footprint ADI-RM-8_L (SOP, 8-Leads, Body 3x3mm, Pitch 0.65mm, IPC High Density)
footprint ADI-RM-8_M (SOP, 8-Leads, Body 3x3mm, Pitch 0.65mm, IPC Low Density)
pins: 1 NC "No Connect.", 2 DOUT (hiz) "Serial Data Output. Logic output. Data is clocked out of the temperature value register at this pin. Data is clocked out on the falling edge of SCLK.", 3 ~{CS} (in) "Chip Select Input. Logic input. The device is selected when this input is low. The SCLK input is disabled when this pin is high.", 4 SCLK (in) "Serial Clock Input. This is the clock input for the serial port.", 5 VDD (power) "Positive Supply Voltage.", 6 DIN (in) "Serial Data Input. Serial data to be loaded to the part’s control register is provided on this input. Data is clocked into the control register on the rising edge of SCLK.", 7 GND (power) "Analog and Digital Ground.", 8 NC "No Connect."

## ADT7301ARTZ-500RL7
designator U?
+/-1 degrees C Accurate, 13-Bit, Digital Temperature Sensor, 2.7 to 5.25 V Supply, Industrial, 6-pin SOT23 (RJ-6), Reel; Manufacturer: Analog Devices; PartNumber: ADT7301ARTZ-500RL7; DatasheetVersion: Rev. B; PackageVersion: 121608-A, 12/2008; PackageReference: RJ-6; PackageDescription: 6-Pin Small Outline Transistor Package, Body 2.9 x 1.6 mm, Pitch 0.95 mm; Supplier 1: Digi-Key; Supplier Part Number 1: ADT7301ARTZ-500RL7TR-ND; Supplier 2: Digi-Key; Supplier Part Number 2: ADT7301ARTZ-500RL7CT-ND; Supplier 3: Digi-Key; Supplier Part Number 3: ADT7301ARTZ-500RL7DKR-ND; Supplier 4: Farnell; Supplier Part Number 4: 1838912; Supplier 5: Farnell; Supplier Part Number 5: 1838912RL; Supplier 6: Newark; Supplier Part Number 6: 59K3053; Supplier 7: Mouser; Supplier Part Number 7: 584-ADT7301ARTZ500R7; Packing: Reel; Supply Voltage Range: 2.7 to 5.25 V; Mounting Technology: Surface Mount; Code_JEDEC: MO-178-AB; ComponentLink1Description: Manufacturer URL; ComponentLink1URL: http://www.analog.com/en/index.html; ComponentLink2Description: Datasheet; ComponentLink2URL: http://www.analog.com/static/imported-files/data_sheets/ADT7301.pdf; ComponentLink3Description: Package Specification; ComponentLink3URL: http://www.analog.com/static/imported-files/packages/PKG_PDF/SOT-23(RJ)/RJ_6.pdf; ComponentLink4Description: Product URL; ComponentLink4URL: http://www.analog.com/en/mems-sensors/digital-temperature-sensors/adt7301/products/product.html
footprint ADI-RJ-6_N (SOT23, 6-Leads, Body 2.9x1.6mm, Pitch 0.95mm, IPC Medium Density)
footprint ADI-RJ-6_L (SOT23, 6-Leads, Body 2.9x1.6mm, Pitch 0.95mm, IPC High Density)
footprint ADI-RJ-6_M (SOT23, 6-Leads, Body 2.9x1.6mm, Pitch 0.95mm, IPC Low Density)
pins: 1 GND (power) "Analog and Digital Ground.", 2 DIN (in) "Serial Data Input. Serial data to be loaded to the part’s control register is provided on this input. Data is clocked into the control register on the rising edge of SCLK.", 3 VDD (power) "Positive Supply Voltage, 2.7 V to 5.25 V.", 4 SCLK (in) "Serial Clock Input. This is the clock input for the serial port. The serial clock is used to clock data out of the temperature value register and to clock data into the control register on the part.", 5 ~{CS} (in) "Chip Select Input. Logic input. The device is selected when this input is low. The SCLK input is disabled when this pin is high.", 6 DOUT (hiz) "Serial Data Output. Logic output. Data is clocked out of the temperature value register at this pin. Data is clocked out on the falling edge of SCLK."